# Altium integrated library IC.IntLib: 43 symbols
Pins are listed as number, name and electrical type; pins without a type are passive.

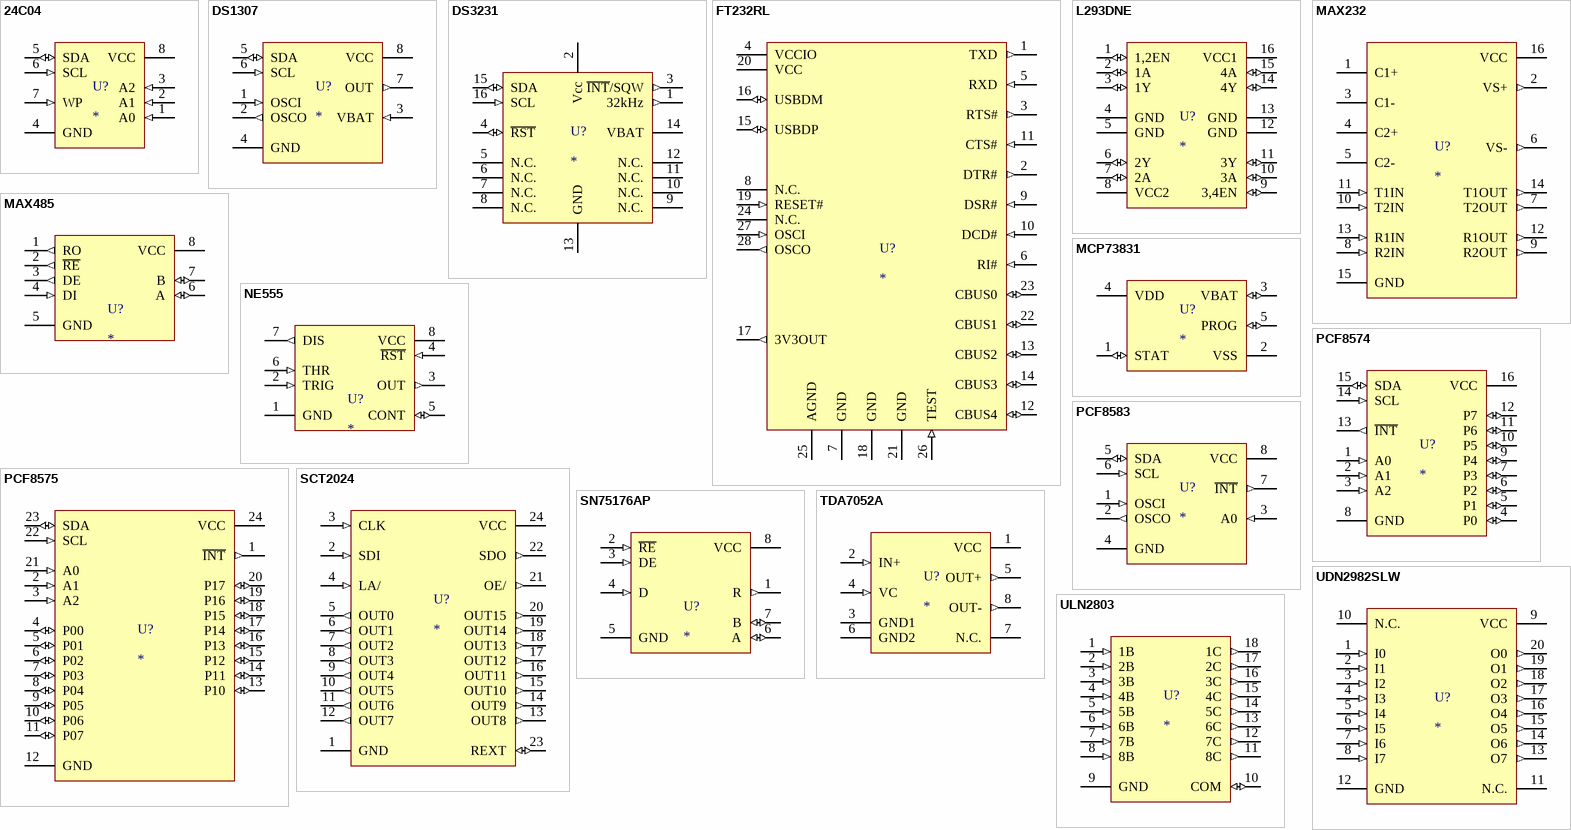
[diagram p0: symbols 24C04 to ULN2803]

## 24C04
designator U?
footprint DIP-8
footprint SO-8
footprint TSSOP-8
pins: 1 A0 (in), 2 A1 (in), 3 A2 (in), 4 GND (power), 5 SDA (io), 6 SCL (in), 7 WP (in), 8 VCC (power)

## DS1307
designator U?
footprint DIP-8
footprint SO-8
pins: 1 OSCI (in), 2 OSCO (out), 3 VBAT (in), 4 GND (power), 5 SDA (io), 6 SCL (in), 7 OUT (out), 8 VCC (power)

## DS3231
designator U?
footprint SO-16W
pins: 1 32kHz (out), 2 Vcc (power), 3 ~{INT}/SQW (out), 4 ~{RST} (io), 5 N.C. (power), 6 N.C. (power), 7 N.C. (power), 8 N.C. (power), 9 N.C. (power), 10 N.C. (power), 11 N.C. (power), 12 N.C. (power), 13 GND (power), 14 VBAT (power), 15 SDA (io), 16 SCL (in)

## FT232RL
designator U?
footprint SSOP-28
pins: 1 TXD (out), 2 DTR# (out), 3 RTS# (out), 4 VCCIO (power), 5 RXD (in), 6 RI# (in), 7 GND (power), 8 N.C., 9 DSR# (in), 10 DCD# (in), 11 CTS# (in), 12 CBUS4 (io), 13 CBUS2 (io), 14 CBUS3 (io), 15 USBDP (io), 16 USBDM (io), 17 3V3OUT (out), 18 GND (power), 19 RESET# (in), 20 VCC (power), 21 GND (power), 22 CBUS1 (io), 23 CBUS0 (io), 24 N.C., 25 AGND (power), 26 TEST (in), 27 OSCI (in), 28 OSCO (out)

## L293DNE
designator U?
footprint DIP-16
pins: 1 1,2EN (io), 2 1A (io), 3 1Y (io), 4 GND (power), 5 GND (power), 6 2Y (io), 7 2A (io), 8 VCC2 (power), 9 3,4EN (io), 10 3A (io), 11 3Y (io), 12 GND (power), 13 GND (power), 14 4Y (io), 15 4A (io), 16 VCC1 (power)

## MAX232
designator U?
footprint SO-16
footprint SO-16W
footprint DIP-16
pins: 1 C1+, 2 VS+ (out), 3 C1-, 4 C2+ (power), 5 C2-, 6 VS- (out), 7 T2OUT (out), 8 R2IN (in), 9 R2OUT (out), 10 T2IN (in), 11 T1IN (in), 12 R1OUT (out), 13 R1IN (in), 14 T1OUT (out), 15 GND (power), 16 VCC (power)

## MAX485
designator U?
footprint DIP-8
footprint SO-8
pins: 1 RO (out), 2 ~{RE} (out), 3 DE (out), 4 DI (in), 5 GND (power), 6 A (io), 7 B (io), 8 VCC (power)

## MCP73831
designator U?
footprint SOT-23-5
pins: 1 STAT (io), 2 VSS (power), 3 VBAT (io), 4 VDD (power), 5 PROG (io)

## NE555
designator U?
footprint DIP-8
footprint SO-8
pins: 1 GND (power), 2 TRIG (in), 3 OUT (out), 4 ~{RST} (in), 5 CONT (io), 6 THR (in), 7 DIS (out), 8 VCC (power)

## PCF8574
designator U?
footprint DIP-16
footprint SO-16
pins: 1 A0 (in), 2 A1 (in), 3 A2 (in), 4 P0 (io), 5 P1 (io), 6 P2 (io), 7 P3 (io), 8 GND (power), 9 P4 (io), 10 P5 (io), 11 P6 (io), 12 P7 (io), 13 ~{INT} (out), 14 SCL (in), 15 SDA (io), 16 VCC (power)

## PCF8575
designator U?
footprint SO-24
footprint TSSOP-24
pins: 1 ~{INT} (out), 2 A1 (in), 3 A2 (in), 4 P00 (io), 5 P01 (io), 6 P02 (io), 7 P03 (io), 8 P04 (io), 9 P05 (io), 10 P06 (io), 11 P07 (io), 12 GND (power), 13 P10 (io), 14 P11 (io), 15 P12 (io), 16 P13 (io), 17 P14 (io), 18 P15 (io), 19 P16 (io), 20 P17 (io), 21 A0 (in), 22 SCL (in), 23 SDA (io), 24 VCC (power)

## PCF8583
designator U?
footprint DIP-8
footprint SO-8
footprint SO-8T
pins: 1 OSCI (in), 2 OSCO (out), 3 A0 (in), 4 GND (power), 5 SDA (io), 6 SCL (in), 7 ~{INT} (out), 8 VCC (power)

## SCT2024
designator U?
footprint SSOP-24
footprint SO-24
pins: 1 GND (power), 2 SDI (in), 3 CLK (in), 4 LA/ (in), 5 OUT0 (out), 6 OUT1 (out), 7 OUT2 (out), 8 OUT3 (out), 9 OUT4 (out), 10 OUT5 (out), 11 OUT6 (out), 12 OUT7 (out), 13 OUT8 (out), 14 OUT9 (out), 15 OUT10 (out), 16 OUT11 (out), 17 OUT12 (out), 18 OUT13 (out), 19 OUT14 (out), 20 OUT15 (out), 21 OE/ (out), 22 SDO (out), 23 REXT (io), 24 VCC (power)

## SN75176AP
designator U?
footprint DIP-8
footprint SO-8
pins: 1 R (out), 2 ~{RE} (in), 3 DE (in), 4 D (in), 5 GND (power), 6 A (io), 7 B (io), 8 VCC (power)

## TDA7052A
designator U?
footprint SO-8
footprint DIP-8
pins: 1 VCC (power), 2 IN+ (in), 3 GND1 (power), 4 VC (in), 5 OUT+ (out), 6 GND2 (power), 7 N.C., 8 OUT- (out)

## UDN2982SLW
designator U?
footprint SO-20
pins: 1 I0 (in), 2 I1 (in), 3 I2 (in), 4 I3 (in), 5 I4 (in), 6 I5 (in), 7 I6 (in), 8 I7 (in), 9 VCC (power), 10 N.C., 11 N.C., 12 GND (power), 13 O7 (out), 14 O6 (out), 15 O5 (out), 16 O4 (out), 17 O3 (out), 18 O2 (out), 19 O1 (out), 20 O0 (out)

## ULN2803
designator U?
footprint DIP-18
footprint SO-18
pins: 1 1B (in), 2 2B (in), 3 3B (in), 4 4B (in), 5 5B (in), 6 6B (in), 7 7B (in), 8 8B (in), 9 GND (power), 10 COM (io), 11 8C (out), 12 7C (out), 13 6C (out), 14 5C (out), 15 4C (out), 16 3C (out), 17 2C (out), 18 1C (out)


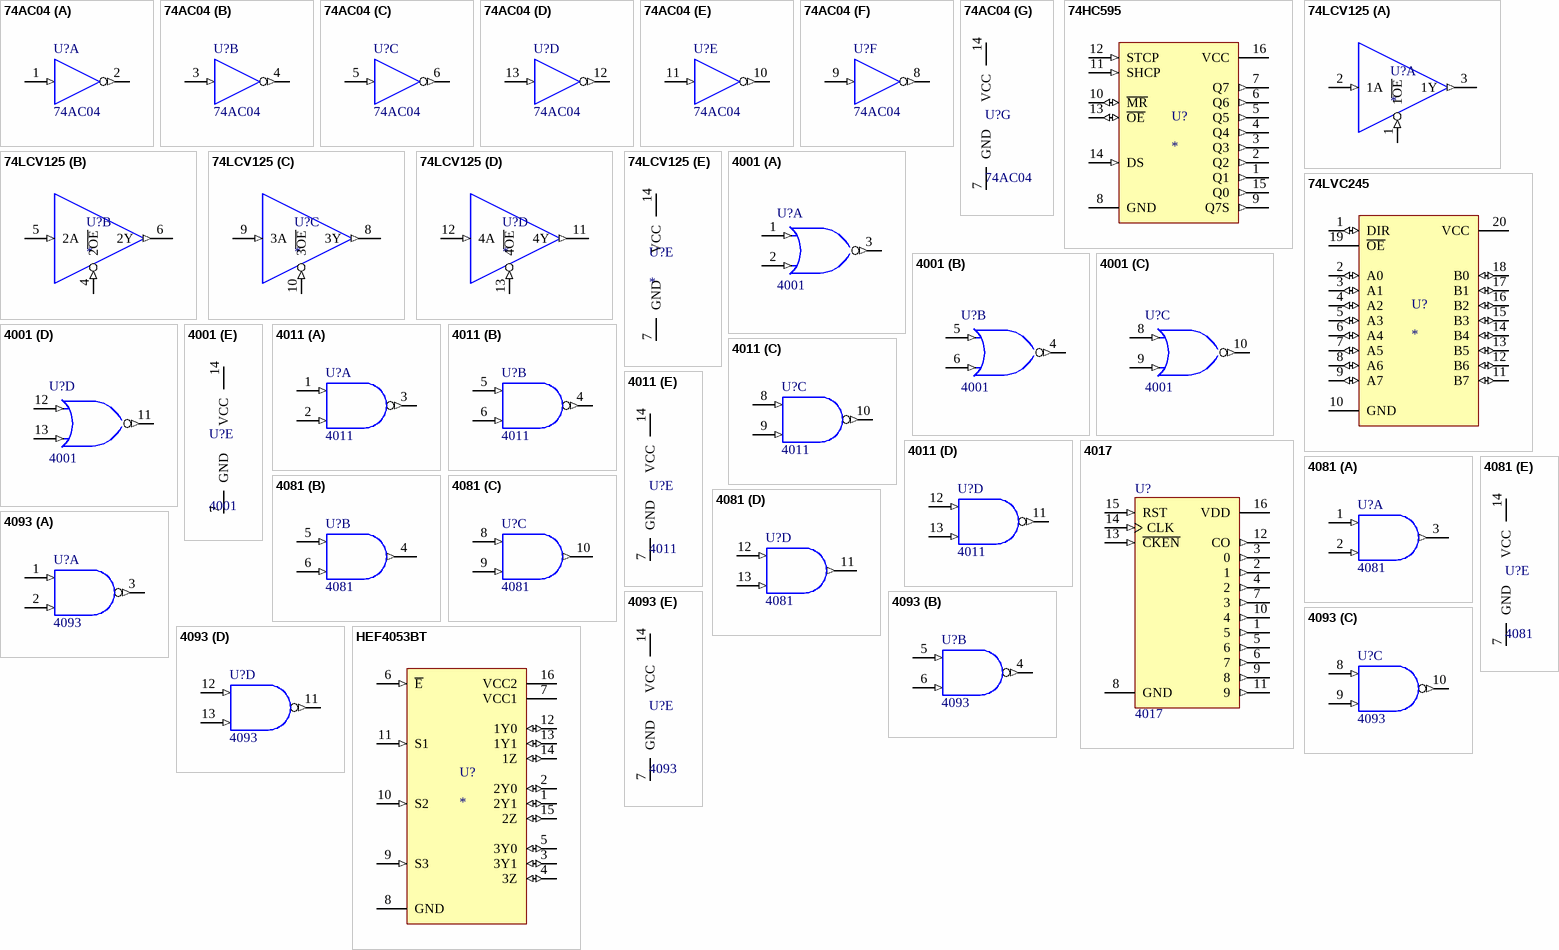
[diagram p1: symbols 74AC04 to HEF4053BT]

## 74AC04
designator U?
Hex Inverter, 14-Pin PDIP, Commercial Grade
footprint DIP-14
footprint SO-14
part A pins: 1 A (in), 2 ~{O} (out)
part B pins: 3 A (in), 4 ~{O} (out)
part C pins: 5 A (in), 6 ~{O} (out)
part D pins: 12 ~{O} (out), 13 A (in)
part E pins: 10 ~{O} (out), 11 A (in)
part F pins: 8 ~{O} (out), 9 A (in)
part G pins: 7 GND (power), 14 VCC (power)

## 74HC595
designator U?
footprint SO-16
footprint TSSOP-16
footprint DIP-16
pins: 1 Q1 (out), 2 Q2 (out), 3 Q3 (out), 4 Q4 (out), 5 Q5 (out), 6 Q6 (out), 7 Q7 (out), 8 GND (power), 9 Q7S (out), 10 ~{MR} (io), 11 SHCP (in), 12 STCP (in), 13 ~{OE} (io), 14 DS (in), 15 Q0 (out), 16 VCC (power)

## 74LCV125
designator U?
BUFFERS (3-STATE)
footprint SO-14
footprint TSSOP-14
part A pins: 1 1~{OE} (in), 2 1A (in), 3 1Y (out)
part B pins: 4 2~{OE} (in), 5 2A (in), 6 2Y (out)
part C pins: 8 3Y (out), 9 3A (in), 10 3~{OE} (in)
part D pins: 11 4Y (out), 12 4A (in), 13 4~{OE} (in)
part E pins: 7 GND (power), 14 VCC (power)

## 74LVC245
designator U?
footprint DIP-20
footprint SO-20
pins: 1 DIR (io) "aa", 2 A0 (io), 3 A1 (io), 4 A2 (io), 5 A3 (io), 6 A4 (io), 7 A5 (io), 8 A6 (io), 9 A7 (io), 10 GND (power), 11 B7 (io), 12 B6 (io), 13 B5 (io), 14 B4 (io), 15 B3 (io), 16 B2 (io), 17 B1 (io), 18 B0 (io), 19 ~{OE}, 20 VCC (power)

## 4001
designator U?
Quad 2-Input NOR
footprint DIP-14
footprint SO-14
part A pins: 1 A (in), 2 B (in), 3 J (out)
part B pins: 4 J (out), 5 A (in), 6 B (in)
part C pins: 8 A (in), 9 B (in), 10 J (out)
part D pins: 11 J (out), 12 A (in), 13 B (in)
part E pins: 7 GND (power), 14 VCC (power)

## 4011
designator U?
Quad 2-Input NAND
footprint DIP-14
footprint SO-14
part A pins: 1 A (in), 2 B (in), 3 J (out)
part B pins: 4 J (out), 5 A (in), 6 B (in)
part C pins: 8 A (in), 9 F (in), 10 J (out)
part D pins: 11 J (out), 12 A (in), 13 B (in)
part E pins: 7 GND (power), 14 VCC (power)

## 4017
designator U?
Decade Counter/Divider with 10 Decoded Outputs
footprint DIP-16
footprint SO-16
pins: 1 5 (out), 2 1 (out), 3 0 (out), 4 2 (out), 5 6 (out), 6 7 (out), 7 3 (out), 8 GND (power), 9 8 (out), 10 4 (out), 11 9 (out), 12 CO (out), 13 ~{CKEN} (in), 14 CLK (in), 15 RST (in), 16 VDD (power)

## 4081
designator U?
Quad 2-Input AND
footprint DIP-14
footprint SO-14
part A pins: 1 A (in), 2 B (in), 3 J (out)
part B pins: 4 J (out), 5 A (in), 6 B (in)
part C pins: 8 A (in), 9 B (in), 10 J (out)
part D pins: 11 J (out), 12 A (in), 13 B (in)
part E pins: 7 GND (power), 14 VCC (power)

## 4093
designator U?
Quad 2-Input Schmitt-Trigger NAND
footprint DIP-14
footprint SO-14
part A pins: 1 A (in), 2 B (in), 3 J (out)
part B pins: 4 K (out), 5 C (in), 6 D (in)
part C pins: 8 E (in), 9 F (in), 10 L (out)
part D pins: 11 M (out), 12 G (in), 13 H (in)
part E pins: 7 GND (power), 14 VCC (power)

## HEF4053BT
designator U?
footprint DIP-16
footprint TSSOP-16
footprint SO-16
pins: 1 2Y1 (io), 2 2Y0 (io), 3 3Y1 (io), 4 3Z (io), 5 3Y0 (io), 6 ~{E} (in), 7 VCC1 (power), 8 GND (power), 9 S3 (in), 10 S2 (in), 11 S1 (in), 12 1Y0 (io), 13 1Y1 (io), 14 1Z (io), 15 2Z (io), 16 VCC2 (power)


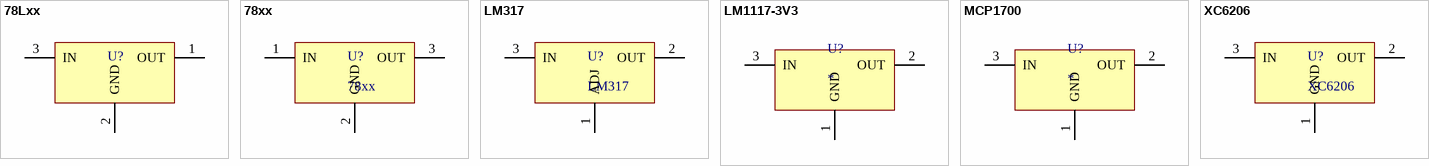
[diagram p2: symbols 78Lxx to XC6206]

## 78Lxx
designator U?  (value not drawn)
footprint TO-92 (TO-92 BEND LEAD)
pins: 1 OUT (power), 2 GND (power), 3 IN (power)

## 78xx
designator U?
footprint TO-220
pins: 1 IN (power), 2 GND (power), 3 OUT (power)

## LM317
designator U?
footprint TO-220
pins: 1 ADJ (power), 2 OUT (power), 3 IN (power)

## LM1117-3V3
designator U?
footprint SOT-223
footprint TO-252
pins: 1 GND (power), 2 OUT (power), 3 IN

## MCP1700
designator U?
footprint SOT23
pins: 1 GND (power), 2 OUT (power), 3 IN (power)

## XC6206
designator U?
footprint SOT23
pins: 1 GND (power), 2 OUT (power), 3 IN (power)


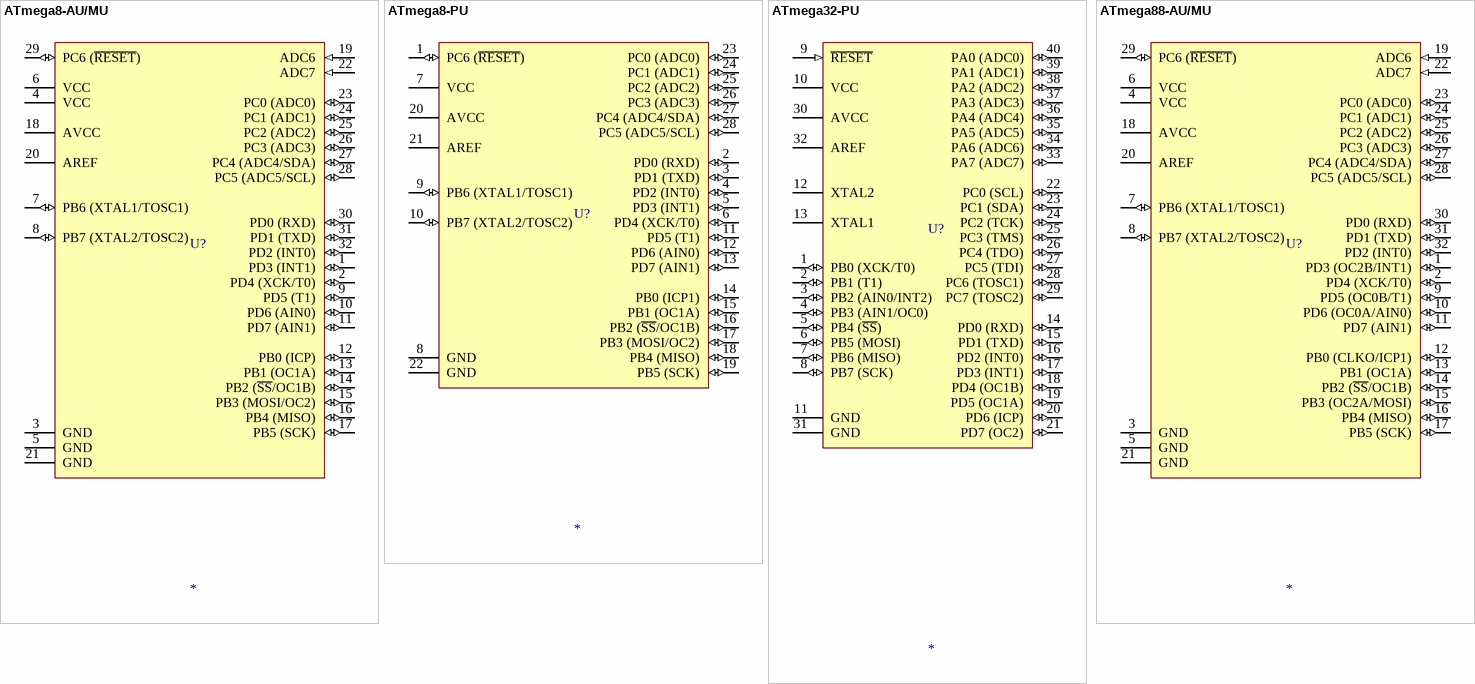
[diagram p3: symbols ATmega8-AU/MU to ATmega88-AU/MU]

## ATmega8-AU/MU
designator U?
TQFP - 32pin / MLF - 32pin; DatasheetVersion: revZ, Feb-2011; PackageVersion: revC, Oct-2010; PackageReference: 32A; PackageDescription: 32-Lead, 7x7x1.0 mm Body, 0.8mm Lead Pitch, Thin Profile Plastic Quad Flat Package (TQFP); Code_JEDEC: MS-026-ABA; ComponentLink1Description: Manufacturer URL; ComponentLink1URL: http://www.atmel.com/; ComponentLink2Description: ATmega8(L); ComponentLink2URL: http://www.atmel.com/dyn/resources/prod_documents/doc2486.pdf; ComponentLink3Description: ATmega8(L) Summary; ComponentLink3URL: http://www.atmel.com/dyn/resources/prod_documents/2486S.pdf
footprint TQFP-32A
pins: 1 PD3 (INT1) (io), 2 PD4 (XCK/T0) (io), 3 GND (power), 4 VCC (power), 5 GND (power), 6 VCC (power), 7 PB6 (XTAL1/TOSC1) (io), 8 PB7 (XTAL2/TOSC2) (io), 9 PD5 (T1) (io), 10 PD6 (AIN0) (io), 11 PD7 (AIN1) (io), 12 PB0 (ICP) (io), 13 PB1 (OC1A) (io), 14 PB2 (~{SS}/OC1B) (io), 15 PB3 (MOSI/OC2) (io), 16 PB4 (MISO) (io), 17 PB5 (SCK) (io), 18 AVCC (power), 19 ADC6 (in), 20 AREF, 21 GND (power), 22 ADC7 (in), 23 PC0 (ADC0) (io), 24 PC1 (ADC1) (io), 25 PC2 (ADC2) (io), 26 PC3 (ADC3) (io), 27 PC4 (ADC4/SDA) (io), 28 PC5 (ADC5/SCL) (io), 29 PC6 (~{RESET}) (io), 30 PD0 (RXD) (io), 31 PD1 (TXD) (io), 32 PD2 (INT0) (io)

## ATmega8-PU
designator U?
DIP - 28pin; DatasheetVersion: revD, Feb-2011; PackageVersion: revB, Sep-2001; PackageReference: 28P3; PackageDescription: 28-lead (0.300"/7.62mm Wide) Plastic Dual Inline Package (PDIP); ComponentLink1Description: Manufacturer URL; ComponentLink1URL: http://www.atmel.com/; ComponentLink2Description: ATmega8A Datasheet; ComponentLink2URL: http://www.atmel.com/dyn/resources/prod_documents/doc8159.pdf; ComponentLink3Description: ATmega8A Summary; ComponentLink3URL: http://www.atmel.com/dyn/resources/prod_documents/8159S.pdf
footprint DIP-28P3
pins: 1 PC6 (~{RESET}) (io), 2 PD0 (RXD) (io), 3 PD1 (TXD) (io), 4 PD2 (INT0) (io), 5 PD3 (INT1) (io), 6 PD4 (XCK/T0) (io), 7 VCC (power), 8 GND (power), 9 PB6 (XTAL1/TOSC1) (io), 10 PB7 (XTAL2/TOSC2) (io), 11 PD5 (T1) (io), 12 PD6 (AIN0) (io), 13 PD7 (AIN1) (io), 14 PB0 (ICP1) (io), 15 PB1 (OC1A) (io), 16 PB2 (~{SS}/OC1B) (io), 17 PB3 (MOSI/OC2) (io), 18 PB4 (MISO) (io), 19 PB5 (SCK) (io), 20 AVCC (power), 21 AREF, 22 GND (power), 23 PC0 (ADC0) (io), 24 PC1 (ADC1) (io), 25 PC2 (ADC2) (io), 26 PC3 (ADC3) (io), 27 PC4 (ADC4/SDA) (io), 28 PC5 (ADC5/SCL) (io)

## ATmega32-PU
designator U?
DIP - 40; DatasheetVersion: revQ, Feb-2011; PackageVersion: revB, Sep-2001; PackageReference: 40P6; PackageDescription: 40-lead (0.600"/15.24mm Wide) Plastic Dual Inline Package (PDIP); Code_JEDEC: MS-011-AC; ComponentLink1Description: Manufacturer URL; ComponentLink1URL: http://www.atmel.com/; ComponentLink2Description: ATmega32(L) Datasheet; ComponentLink2URL: http://atmel.com/dyn/resources/prod_documents/doc2503.pdf; ComponentLink3Description: ATmega32(L) Summary; ComponentLink3URL: http://atmel.com/dyn/resources/prod_documents/2503S.pdf
footprint DIP-40
pins: 1 PB0 (XCK/T0) (io), 2 PB1 (T1) (io), 3 PB2 (AIN0/INT2) (io), 4 PB3 (AIN1/OC0) (io), 5 PB4 (~{SS}) (io), 6 PB5 (MOSI) (io), 7 PB6 (MISO) (io), 8 PB7 (SCK) (io), 9 ~{RESET} (in), 10 VCC (power), 11 GND (power), 12 XTAL2, 13 XTAL1, 14 PD0 (RXD) (io), 15 PD1 (TXD) (io), 16 PD2 (INT0) (io), 17 PD3 (INT1) (io), 18 PD4 (OC1B) (io), 19 PD5 (OC1A) (io), 20 PD6 (ICP) (io), 21 PD7 (OC2) (io), 22 PC0 (SCL) (io), 23 PC1 (SDA) (io), 24 PC2 (TCK) (io), 25 PC3 (TMS) (io), 26 PC4 (TDO) (io), 27 PC5 (TDI) (io), 28 PC6 (TOSC1) (io), 29 PC7 (TOSC2) (io), 30 AVCC (power), 31 GND (power), 32 AREF, 33 PA7 (ADC7) (io), 34 PA6 (ADC6) (io), 35 PA5 (ADC5) (io), 36 PA4 (ADC4) (io), 37 PA3 (ADC3) (io), 38 PA2 (ADC2) (io), 39 PA1 (ADC1) (io), 40 PA0 (ADC0) (io)

## ATmega88-AU/MU
designator U?
TQFP - 32pin / MLF - 32pin; DatasheetVersion: revT, May-2011; PackageVersion: revC, Oct-2010; PackageReference: 32A; PackageDescription: 32-Lead, 7x7x1.0 mm Body, 0.8mm Lead Pitch, Thin Profile Plastic Quad Flat Package (TQFP); Code_JEDEC: MS-026-ABA; ComponentLink1Description: Manufacturer URL; ComponentLink1URL: http://www.atmel.com/; ComponentLink2Description: ATmega48/88/168 Datasheet; ComponentLink2URL: http://www.atmel.com/dyn/resources/prod_documents/doc2545.pdf; ComponentLink3Description: ATmega48/88/168 Summary; ComponentLink3URL: http://www.atmel.com/dyn/resources/prod_documents/2545S.pdf
footprint TQFP-32A
pins: 1 PD3 (OC2B/INT1) (io), 2 PD4 (XCK/T0) (io), 3 GND (power), 4 VCC (power), 5 GND (power), 6 VCC (power), 7 PB6 (XTAL1/TOSC1) (io), 8 PB7 (XTAL2/TOSC2) (io), 9 PD5 (OC0B/T1) (io), 10 PD6 (OC0A/AIN0) (io), 11 PD7 (AIN1) (io), 12 PB0 (CLKO/ICP1) (io), 13 PB1 (OC1A) (io), 14 PB2 (~{SS}/OC1B) (io), 15 PB3 (OC2A/MOSI) (io), 16 PB4 (MISO) (io), 17 PB5 (SCK) (io), 18 AVCC (power), 19 ADC6 (in), 20 AREF, 21 GND (power), 22 ADC7 (in), 23 PC0 (ADC0) (io), 24 PC1 (ADC1) (io), 25 PC2 (ADC2) (io), 26 PC3 (ADC3) (io), 27 PC4 (ADC4/SDA) (io), 28 PC5 (ADC5/SCL) (io), 29 PC6 (~{RESET}) (io), 30 PD0 (RXD) (io), 31 PD1 (TXD) (io), 32 PD2 (INT0) (io)


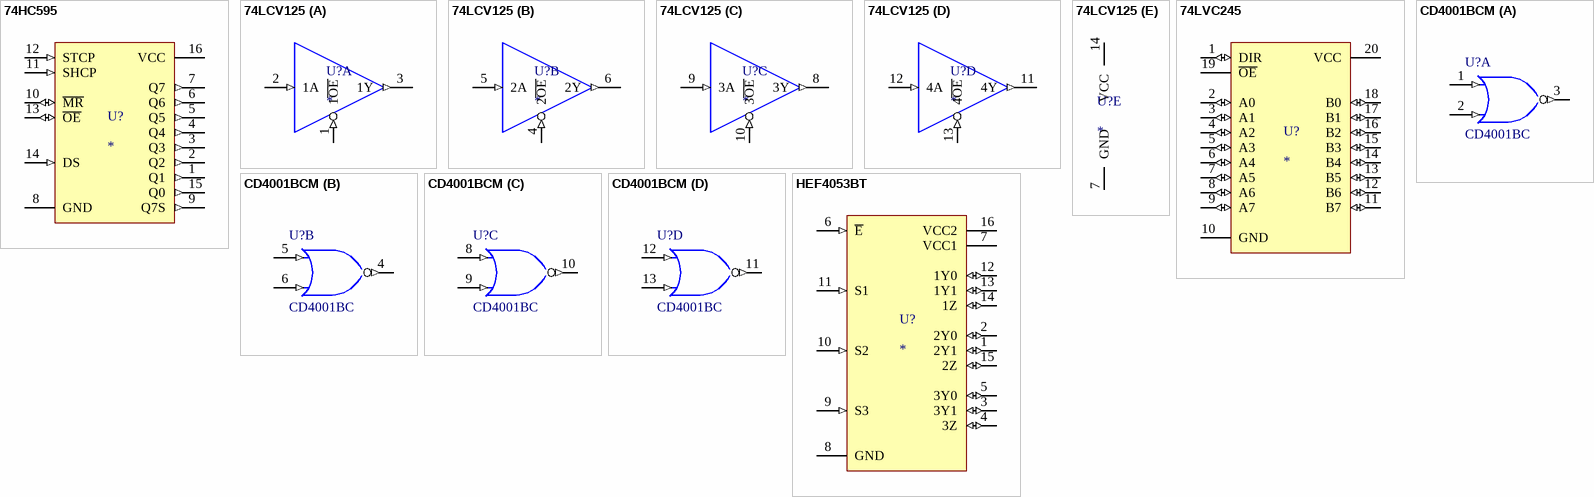
[diagram p4: symbols 74HC595 to HEF4053BT]

## 74HC595
designator U?
footprint SO-16
footprint TSSOP-16
footprint DIP-16
pins: 1 Q1 (out), 2 Q2 (out), 3 Q3 (out), 4 Q4 (out), 5 Q5 (out), 6 Q6 (out), 7 Q7 (out), 8 GND (power), 9 Q7S (out), 10 ~{MR} (io), 11 SHCP (in), 12 STCP (in), 13 ~{OE} (io), 14 DS (in), 15 Q0 (out), 16 VCC (power)

## 74LCV125
designator U?
BUFFERS (3-STATE)
footprint SO-14
footprint TSSOP-14
part A pins: 1 1~{OE} (in), 2 1A (in), 3 1Y (out)
part B pins: 4 2~{OE} (in), 5 2A (in), 6 2Y (out)
part C pins: 8 3Y (out), 9 3A (in), 10 3~{OE} (in)
part D pins: 11 4Y (out), 12 4A (in), 13 4~{OE} (in)
part E pins: 7 GND (power), 14 VCC (power)

## 74LVC245
designator U?
footprint DIP-20
footprint SO-20
pins: 1 DIR (io) "aa", 2 A0 (io), 3 A1 (io), 4 A2 (io), 5 A3 (io), 6 A4 (io), 7 A5 (io), 8 A6 (io), 9 A7 (io), 10 GND (power), 11 B7 (io), 12 B6 (io), 13 B5 (io), 14 B4 (io), 15 B3 (io), 16 B2 (io), 17 B1 (io), 18 B0 (io), 19 ~{OE}, 20 VCC (power)

## CD4001BCM
designator U?, comment CD4001BC
Quad 2-Input NOR; IC_Technology: C; Published: 17-Jul-2002; LatestRevisionDate: 13-Apr-2006; LatestRevisionNote: IPC-7351 Footprint Added.; DatasheetVersion: Jan-1999; PackageVersion: 2000; PackageReference: M14A; Publisher: Altium Limited; PackageDescription: 14-Pin Small Outline Integrated Circuit 1.27 mm Pitch; Code_IPC: SOIC127P600-14; ComponentLink1Description: Manufacturer Link; ComponentLink1URL: http://www.fairchildsemi.com/; ComponentLink2Description: Datasheet; ComponentLink2URL: http://www.fairchildsemi.com/ds/CD%2FCD4001BC.pdf
footprint DIP-14
footprint SO-14
pins on every part: 7 GND (power) hidden to GND, 14 VDD (power) hidden to VDD
part A pins: 1 A (in), 2 B (in), 3 J (out)
part B pins: 4 J (out), 5 A (in), 6 B (in)
part C pins: 8 A (in), 9 B (in), 10 J (out)
part D pins: 11 J (out), 12 A (in), 13 B (in)

## HEF4053BT
designator U?
footprint DIP-16
footprint TSSOP-16
footprint SO-16
pins: 1 2Y1 (io), 2 2Y0 (io), 3 3Y1 (io), 4 3Z (io), 5 3Y0 (io), 6 ~{E} (in), 7 VCC1 (power), 8 GND (power), 9 S3 (in), 10 S2 (in), 11 S1 (in), 12 1Y0 (io), 13 1Y1 (io), 14 1Z (io), 15 2Z (io), 16 VCC2 (power)


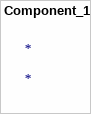
[diagram p5: symbol Component_1]

## Component_1
designator *